# EAGLE library part RN42 (library mille-feuille)
Class 2 Bluetooth® Module with EDR Support • Fully qualified Bluetooth® version 2.1 module, supports version 2.1 + Enhanced Data Rate (EDR) • ASCII command interface over UART • Postage-stamp-sized form factor: - RN42: 13.4 x 25.8 x 2.4 mm
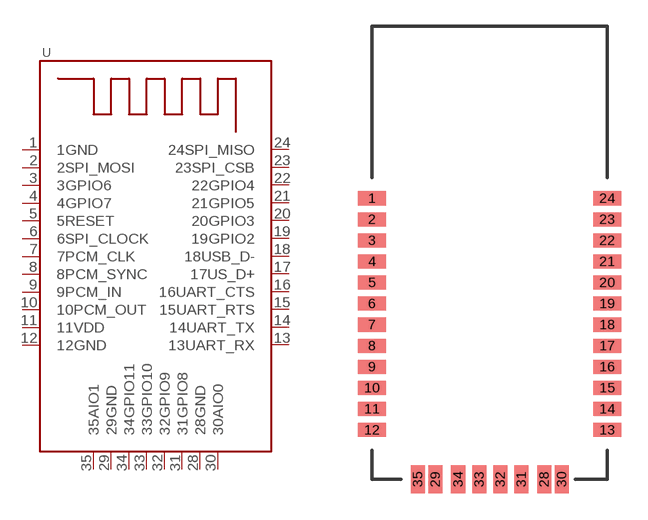
[diagram p23: symbol with the pads of RN42; footprint RN42]

Designator prefix U

## RN42  [RN42]
1  1GND
2  2SPI_MOSI
3  3GPIO6
4  4GPIO7
5  5RESET
6  6SPI_CLOCK
7  7PCM_CLK
8  8PCM_SYNC
9  9PCM_IN
10  10PCM_OUT
11  11VDD
12  12GND
13  13UART_RX
14  14UART_TX
15  15UART_RTS
16  16UART_CTS
17  17US_D+
18  18USB_D-
19  19GPIO2
20  20GPIO3
21  21GPIO5
22  22GPIO4
23  23SPI_CSB
24  24SPI_MISO
28  28GND
29  29GND
30  30AIO0
31  31GPIO8
32  32GPIO9
33  33GPIO10
34  34GPIO11
35  35AIO1

## Footprint RN42 (pad centres in mm)
smd 1.6 x 0.8: 1 0,16; 2 0,14.8; 3 0,13.6; 4 0,12.4; 5 0,11.2; 6 0,10; 7 0,8.8; 8 0,7.6; 9 0,6.4; 10 0,5.2; 11 0,4; 12 0,2.8; 13 13.4,2.8; 14 13.4,4; 15 13.4,5.2; 16 13.4,6.4; 17 13.4,7.6; 18 13.4,8.8; 19 13.4,10; 20 13.4,11.2; 21 13.4,12.4; 22 13.4,13.6; 23 13.4,14.8; 24 13.4,16
smd 0.8 x 1.6: 28 9.8,0; 29 3.6,0; 30 10.8,0; 31 8.5,0; 32 7.3,0; 33 6.1,0; 34 4.9,0; 35 2.6,0